# Altium integrated library Logic_Com_Amp_Opt_ADDA_MosDriver_lib.IntLib: 30 symbols
Pins are listed as number, name and electrical type; pins without a type are passive.

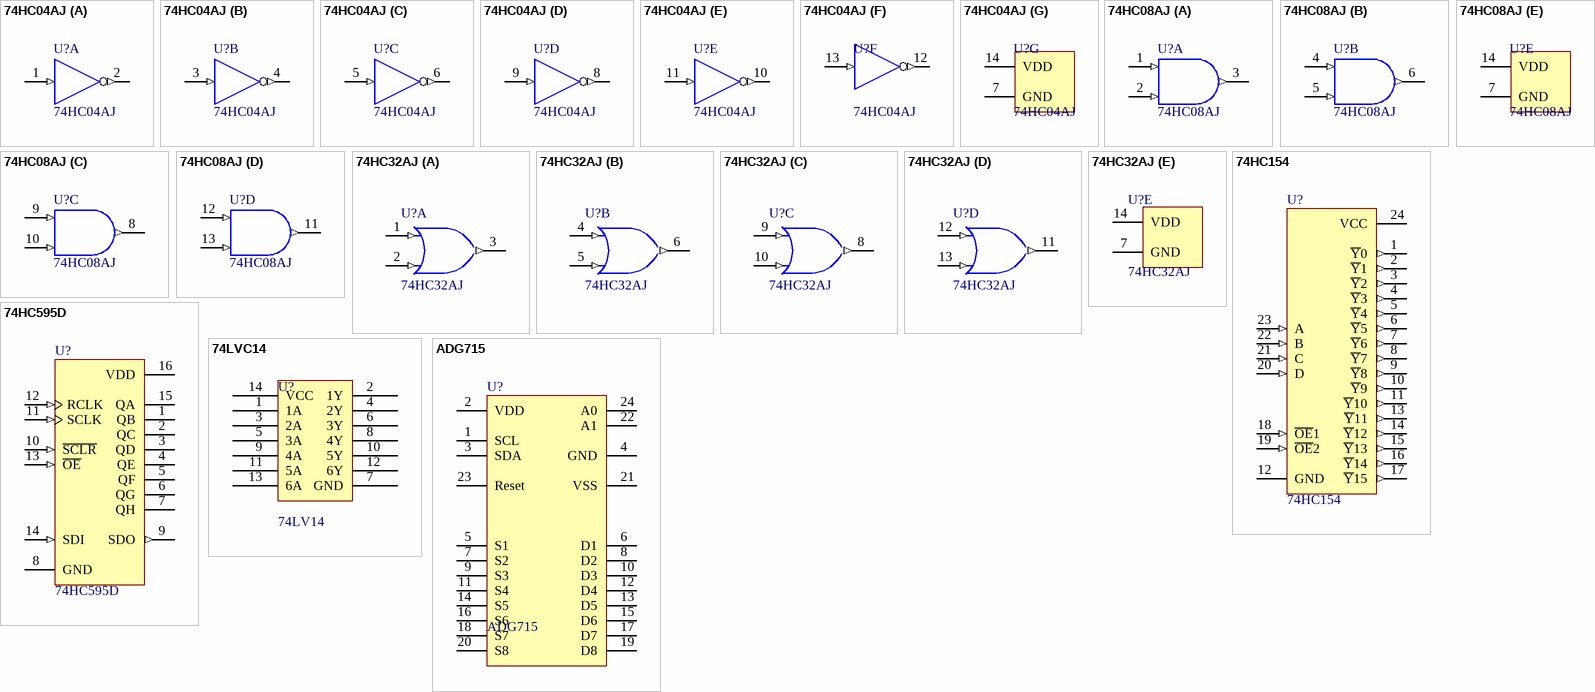
[diagram p0: symbols 74HC04AJ to ADG715]

## 74HC04AJ
designator U?
Hex Inverter; Published: 17-Jul-2002; LatestRevisionDate: 06-Jun-2005; LatestRevisionNote: Stylized 3D Model Added; DatasheetVersion: 1989; PackageReference: 632-08; Publisher: Altium Limited; PackageDescription: DIP; 14 Leads; Row Spacing 7.62 mm; Pitch 2.54 mm; ComponentLink1Description: Manufacturer Link; ComponentLink1URL: http://www.onsemi.com/site/products/parametrics/0,4446,247,00.html; ComponentLink2Description: Ibis Model; ComponentLink2URL: http://www.onsemi.com/pub/Collateral/MC54HC04AJ.IBS
footprint SO-14
part A pins: 1 A (in), 2 Y (out)
part B pins: 3 A (in), 4 Y (out)
part C pins: 5 A (in), 6 Y (out)
part D pins: 8 Y (out), 9 A (in)
part E pins: 10 Y (out), 11 A (in)
part F pins: 12 Y (out), 13 A (in)
part G pins: 7 GND, 14 VDD

## 74HC08AJ
designator U?
Quad 2-Input AND Gate; Published: 17-Jul-2002; LatestRevisionDate: 06-Jun-2005; LatestRevisionNote: Stylized 3D Model Added; DatasheetVersion: 1989; PackageReference: 632-08; Publisher: Altium Limited; PackageDescription: DIP; 14 Leads; Row Spacing 7.62 mm; Pitch 2.54 mm; ComponentLink1Description: Manufacturer Link; ComponentLink1URL: http://www.onsemi.com/site/products/parametrics/0,4446,247,00.html; ComponentLink2Description: Ibis Model; ComponentLink2URL: http://www.onsemi.com/pub/Collateral/MC54HC08AJ.IBS
footprint SO-14
part A pins: 1 A (in), 2 B (in), 3 Y (out)
part B pins: 4 A (in), 5 B (in), 6 Y (out)
part C pins: 8 Y (out), 9 A (in), 10 B (in)
part D pins: 11 Y (out), 12 A (in), 13 B (in)
part E pins: 7 GND, 14 VDD

## 74HC32AJ
designator U?
Quad 2-Input OR Gate; Published: 17-Jul-2002; LatestRevisionDate: 06-Jun-2005; LatestRevisionNote: Stylized 3D Model Added; DatasheetVersion: 1989; PackageReference: 632-08; Publisher: Altium Limited; PackageDescription: DIP; 14 Leads; Row Spacing 7.62 mm; Pitch 2.54 mm; ComponentLink1Description: Manufacturer Link; ComponentLink1URL: http://www.onsemi.com/site/products/parametrics/0,4446,247,00.html; ComponentLink2Description: Ibis Model; ComponentLink2URL: http://www.onsemi.com/pub/Collateral/MC54HC32AJ.IBS
footprint SO-14
part A pins: 1 A (in), 2 B (in), 3 Y (out)
part B pins: 4 A (in), 5 B (in), 6 Y (out)
part C pins: 8 Y (out), 9 A (in), 10 B (in)
part D pins: 11 Y (out), 12 A (in), 13 B (in)
part E pins: 7 GND, 14 VDD

## 74HC154
designator U?
4-to-16 Line Decoder/Demultiplexer; Published: 8-Jun-2000; LatestRevisionDate: 13-Apr-2006; LatestRevisionNote: IPC-7351 Footprint Added.; DatasheetVersion: Oct-1993; PackageVersion: Oct-2001; PackageReference: SO24; Publisher: Altium Limited; PackageDescription: 24-Pin Plastic Small Outline Integrated Circuit 1.27 mm Pitch; ComponentLink1Description: Manufacturer Link; ComponentLink1URL: http://www.st.com/; ComponentLink2Description: Datasheet; ComponentLink2URL: http://www.st.com/stonline/products/literature/ds/1906/m74hc154.pdf
footprint SO24_M (SOIC, 24-Leads, Body 15.4x7.5mm, Pitch 1.27mm, IPC Low Density)
pins: 1 ~{Y}0 (out), 2 ~{Y}1 (out), 3 ~{Y}2 (out), 4 ~{Y}3 (out), 5 ~{Y}4 (out), 6 ~{Y}5 (out), 7 ~{Y}6 (out), 8 ~{Y}7 (out), 9 ~{Y}8 (out), 10 ~{Y}9 (out), 11 ~{Y}10 (out), 12 GND (power), 13 ~{Y}11 (out), 14 ~{Y}12 (out), 15 ~{Y}13 (out), 16 ~{Y}14 (out), 17 ~{Y}15 (out), 18 ~{OE}1 (in), 19 ~{OE}2 (in), 20 D (in), 21 C (in), 22 B (in), 23 A (in), 24 VCC (power)

## 74HC595D
designator U?
8-Bit 3-State Shift Register with Output Storage Register; ComponentAvailability: Not for New Design; Published: 15-Apr-2002; LatestRevisionDate: 13-Apr-2006; LatestRevisionNote: IPC-7351 Footprint Added.; DatasheetVersion: 1997; PackageVersion: Oct-1999; PackageReference: 751B-05; Publisher: Altium Limited; PackageDescription: 16-Pin Small Outline Integrated Circuit 1.27 mm Pitch; Code_JEDEC: MS-012-AC; Code_IPC: SOIC127P600-16; ComponentLink1Description: Manufacturer Link; ComponentLink1URL: http://www.onsemi.com/; ComponentLink2Description: Datasheet; ComponentLink2URL: http://www.onsemi.com/pub/Collateral/MC74VHC595-D.PDF
footprint SO-16
pins: 1 QB (hiz), 2 QC (hiz), 3 QD (hiz), 4 QE (hiz), 5 QF (hiz), 6 QG (hiz), 7 QH (hiz), 8 GND (power), 9 SDO (out), 10 ~{SCLR} (in), 11 SCLK (in), 12 RCLK (in), 13 ~{OE} (in), 14 SDI (in), 15 QA (hiz), 16 VDD (power)

## 74LVC14
designator U?, comment 74LV14
value: 74LVC04AD
footprint SO-14
pins: 1 1A, 2 1Y, 3 2A, 4 2Y, 5 3A, 6 3Y, 7 GND, 8 4Y, 9 4A, 10 5Y, 11 5A, 12 6Y, 13 6A, 14 VCC
2 alternate drawings of the same symbol

## ADG715
designator U?
多路模拟开关选择
footprint TSSOP24P (Shrink Small Outline; 24 Leads; Body Width 4.4 mm; Pitch 0.65 mm)
pins: 1 SCL (hiz), 2 VDD (hiz), 3 SDA (hiz), 4 GND (power), 5 S1 (hiz), 6 D1 (hiz), 7 S2 (hiz), 8 D2 (hiz), 9 S3, 10 D3, 11 S4, 12 D4, 13 D5, 14 S5, 15 D6 (hiz), 16 S6 (hiz), 17 D7 (hiz), 18 S7 (hiz), 19 D8 (hiz), 20 S8 (hiz), 21 VSS, 22 A1, 23 Reset (power), 24 A0


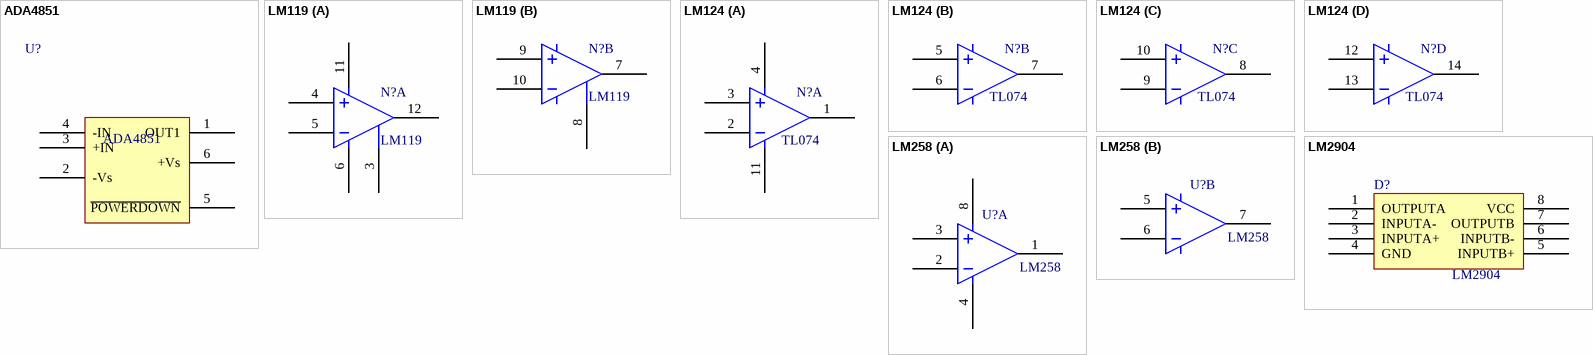
[diagram p1: symbols ADA4851 to LM2904]

## ADA4851
designator U?
footprint SOT-26
pins: 1 OUT1, 2 -Vs, 3 +IN, 4 -IN, 5 ~{POWERDOWN}, 6 +Vs
2 alternate drawings of the same symbol

## LM119
designator N?
footprint DIP-14
footprint SOL-14
footprint SOP14
part A pins: 3, 4, 5, 6, 11, 12
part B pins: 7, 8, 9, 10
2 alternate drawings of the same symbol

## LM124
designator N?, comment TL074
footprint DIP-14
footprint SO-14
part A pins: 1, 2, 3, 4, 11
part B pins: 5, 6, 7
part C pins: 8, 9, 10
part D pins: 12, 13, 14
2 alternate drawings of the same symbol

## LM258
designator U?
两路放大器
footprint SO-8
part A pins: 1, 2, 3, 4, 8
part B pins: 5, 6, 7
2 alternate drawings of the same symbol

## LM2904
designator D?
footprint so-8
pins: 1 OUTPUTA, 2 INPUTA-, 3 INPUTA+, 4 GND, 5 INPUTB+, 6 INPUTB-, 7 OUTPUTB, 8 VCC
2 alternate drawings of the same symbol


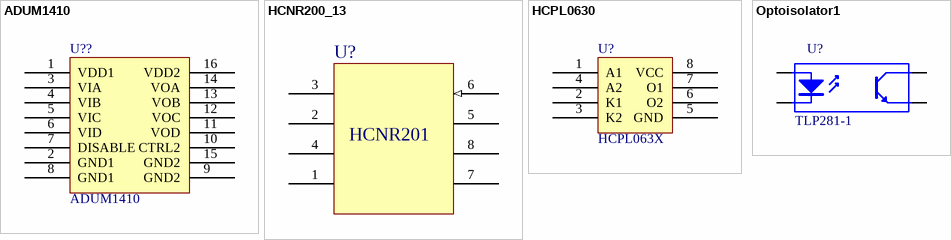
[diagram p2: symbols ADUM1410 to Optoisolator1]

## ADUM1410
designator U??
磁耦隔离
footprint SOIC16(ADUM1410)
pins: 1 VDD1, 2 GND1, 3 VIA, 4 VIB, 5 VIC, 6 VID, 7 DISABLE, 8 GND1, 9 GND2, 10 CTRL2, 11 VOD, 12 VOC, 13 VOB, 14 VOA, 15 GND2, 16 VDD2

## HCNR200_13
designator U?, comment HCNR201
线性光耦
footprint WSOP8
pins: 1, 2, 3, 4, 5, 6 (in), 7, 8
2 alternate drawings of the same symbol

## HCPL0630
designator U?, comment HCPL063X
光耦隔离
footprint SO-8
pins: 1 A1, 2 K1, 3 K2, 4 A2, 5 GND, 6 O2, 7 O1, 8 VCC
2 alternate drawings of the same symbol

## Optoisolator1
designator U?, comment TLP281-1
4-Pin Phototransistor Optocoupler; Published: 24-Mar-1999; LatestRevisionDate: 04-Mar-2005; LatestRevisionNote: Sch pins 3 & 4 Swapped.; DatasheetDocument: Nov-2003; PackageReference: DIP-4; Publisher: Altium Limited
footprint SOP4
footprint sop4
pins: 1 A, 2 K, 3 E, 4 C
2 alternate drawings of the same symbol


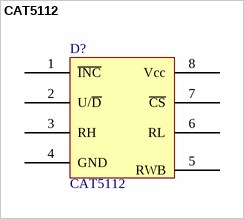
[diagram p3: symbol CAT5112]

## CAT5112
designator D?
footprint SOIC8
pins: 1 ~{INC}, 2 U/~{D}, 3 RH, 4 GND, 5 RWB, 6 RL, 7 ~{CS}, 8 Vcc
2 alternate drawings of the same symbol


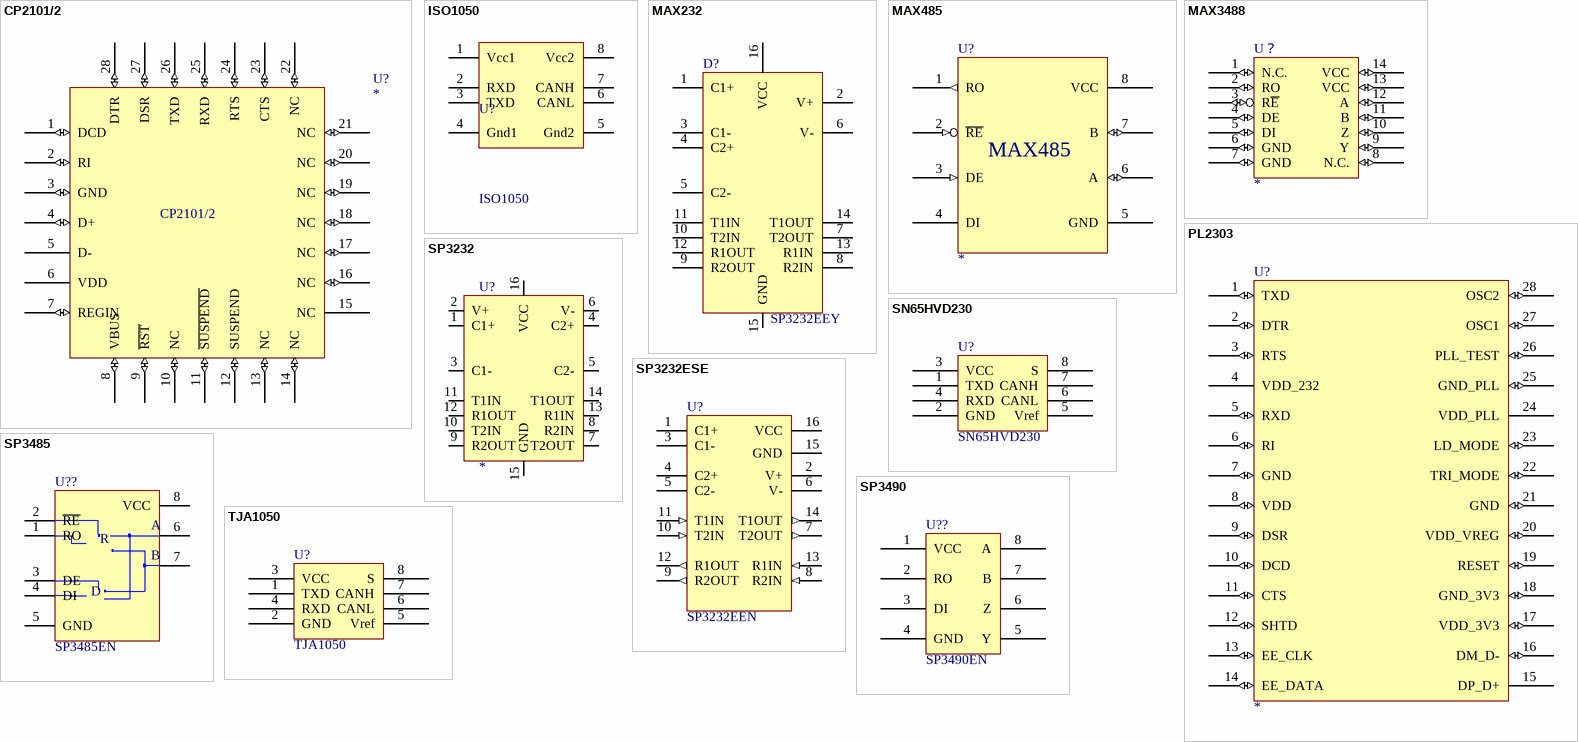
[diagram p4: symbols CP2101/2 to TJA1050]

## CP2101/2
designator U?
USB转TTL-232驱动器
footprint QFN-28
pins: 1 DCD (io), 2 RI (io), 3 GND (io), 4 D+ (io), 5 D- (power), 6 VDD (power), 7 REGIN (io), 8 VBUS (io), 9 ~{RST} (io), 10 NC (io), 11 ~{SUSPEND} (io), 12 SUSPEND (io), 13 NC (io), 14 NC (io), 15 NC (power), 16 NC (io), 17 NC (io), 18 NC (io), 19 NC (io), 20 NC (io), 21 NC (io), 22 NC (io), 23 CTS (io), 24 RTS (io), 25 RXD (io), 26 TXD (io), 27 DSR (io), 28 DTR (io)

## ISO1050
designator U?
隔离式CAN收发器
footprint SOP8
footprint SOP8_2_54
pins: 1 Vcc1, 2 RXD, 3 TXD, 4 Gnd1, 5 Gnd2, 6 CANL, 7 CANH, 8 Vcc2

## MAX232
designator D?, comment SP3232EEY
footprint TSSOP16
pins: 1 C1+, 2 V+, 3 C1-, 4 C2+, 5 C2-, 6 V-, 7 T2OUT, 8 R2IN, 9 R2OUT, 10 T2IN, 11 T1IN, 12 R1OUT, 13 R1IN, 14 T1OUT, 15 GND, 16 VCC

## MAX485
designator U?
footprint DIP8
pins: 1 RO (out), 2 ~{RE} (in), 3 DE (in), 4 DI, 5 GND (power), 6 A (io), 7 B (io), 8 VCC (power)

## MAX3488
designator U？
pins: 1 N.C. (io), 2 RO (io), 3 R~{E} (io), 4 DE (io), 5 DI (io), 6 GND (io), 7 GND (io), 8 N.C. (io), 9 Y (io), 10 Z (io), 11 B (io), 12 A (io), 13 VCC (io), 14 VCC (io)

## PL2303
designator U?
USB转TTL-232驱动器
footprint TSOP28
pins: 1 TXD (io), 2 DTR (io), 3 RTS (io), 4 VDD_232 (power), 5 RXD (io), 6 RI (io), 7 GND (io), 8 VDD (io), 9 DSR (io), 10 DCD (io), 11 CTS (io), 12 SHTD (io), 13 EE_CLK (io), 14 EE_DATA (io), 15 DP_D+ (power), 16 DM_D- (io), 17 VDD_3V3 (io), 18 GND_3V3 (io), 19 RESET (io), 20 VDD_VREG (io), 21 GND (io), 22 TRI_MODE (io), 23 LD_MODE (io), 24 VDD_PLL (power), 25 GND_PLL (io), 26 PLL_TEST (io), 27 OSC1 (io), 28 OSC2 (io)

## SN65HVD230
designator U?
CAN收发器
footprint SO-8
pins: 1 TXD, 2 GND, 3 VCC, 4 RXD, 5 Vref, 6 CANL, 7 CANH, 8 S

## SP3232
designator U?
RS-232线路驱动器
footprint SO-16
pins: 1 C1+, 2 V+, 3 C1-, 4 C2+, 5 C2-, 6 V-, 7 T2OUT, 8 R2IN, 9 R2OUT, 10 T2IN, 11 T1IN, 12 R1OUT, 13 R1IN, 14 T1OUT, 15 GND, 16 VCC

## SP3232ESE
designator U?, comment SP3232EEN
+5V Powered, Multi-Channel RS-232 Driver/Receiver; Package Information: Latest Revision: 1997; Code - JEDEC: MS-001-BB; Published: 16-Jan-2001; Revision: 17-Jul-2002: Re-released for DXP Platform.; Package Reference: PE16A; Publisher: Altium Limited
footprint SO-16
pins: 1 C1+, 2 V+ (power), 3 C1-, 4 C2+, 5 C2-, 6 V- (power), 7 T2OUT (out), 8 R2IN (in), 9 R2OUT (out), 10 T2IN (in), 11 T1IN (in), 12 R1OUT (out), 13 R1IN (in), 14 T1OUT (out), 15 GND (power), 16 VCC (power)
2 alternate drawings of the same symbol

## SP3485
designator U??, comment SP3485EN
RS-485线路驱动器; value: SP3485EN
footprint SO-8
pins: 1 RO, 2 ~{RE}, 3 DE, 4 DI, 5 GND (power), 6 A, 7 B, 8 VCC (power)
2 alternate drawings of the same symbol
text: R; D

## SP3490
designator U??, comment SP3490EN
RS-422线路驱动器
footprint SO-8
pins: 1 VCC, 2 RO, 3 DI, 4 GND, 5 Y, 6 Z, 7 B, 8 A
2 alternate drawings of the same symbol

## TJA1050
designator U?
CAN收发器
footprint SO-8
pins: 1 TXD, 2 GND, 3 VCC, 4 RXD, 5 Vref, 6 CANL, 7 CANH, 8 S


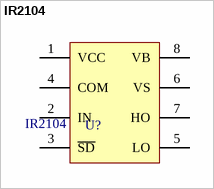
[diagram p5: symbol IR2104]

## IR2104
designator U?
半桥驱动器
footprint SO-8
pins: 1 VCC, 2 IN, 3 ~{SD}, 4 COM, 5 LO, 6 VS, 7 HO, 8 VB